# Altium integrated library TI Amplifiers and Linear Instrumentation Amplifier.IntLib: 274 symbols (part 9 of 10)
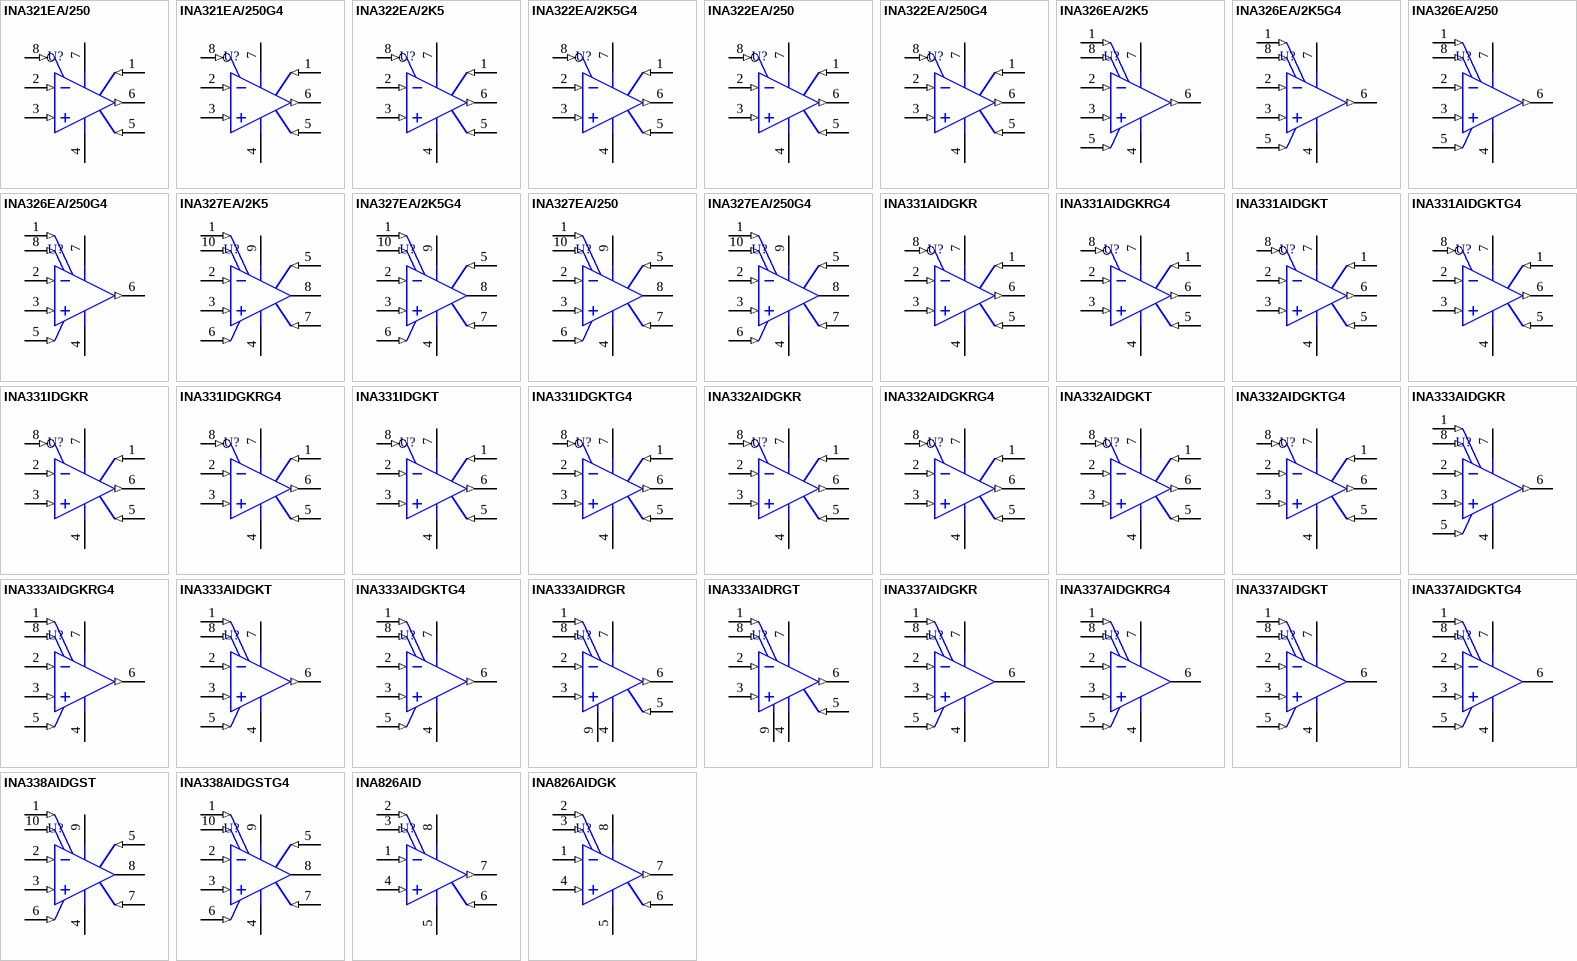
[diagram p16: symbols INA321EA/250 to INA826AIDGK]

## INA333AIDGKT
designator U?
Low Power, Precision Instrumentation Amplifier, -40 to 125 degC, 8-pin SOP (DGK8), Green (RoHS & no Sb/Br); Manufacturer: Texas Instruments; PartNumber: INA333AIDGKT; CMRR(Min)(dB): 100; Gain(V/V): 1 to 1000; Input Bias Current (+/-)(Max)(nA): 0.2; Input Offset (+/-)(Max)(uV): 25; Input Offset Drift (+/-)(Max)(uV/Degrees Celsius): 0.1; Noise at 1kHz(Typ)(nV/rt(Hz)): 50; Number of Channels: 1; Output Offset (+/-)(Max)(uV): 75/G; Output Offset Drift (+/-)(Max)(uV/Degrees Celsius): 0.5/G; Quiescent Current (+/-)(Typ)(mA): 0.05; SubFamily: Single Supply; Vs(Max)(V): 5.5; Vs(Min)(V): 1.8; DatasheetVersion: SBOS445B; PackageVersion: 4073329/E, 05/2006; PackageReference: DGK8; PackageDescription: 8-Pin Thin Small Outline, Body 3 x 3 mm, Pitch 0.65 mm; Supplier 1: Digi-Key; Supplier Part Number 1: 296-23565-2-ND; Supplier 2: Digi-Key; Supplier Part Number 2: 296-23565-1-ND; Supplier 3: Digi-Key; Supplier Part Number 3: 296-23565-6-ND; Supplier 4: Farnell; Supplier Part Number 4: 1645386; Supplier 5: Newark; Supplier Part Number 5: 86W6747; Supplier 6: Newark; Supplier Part Number 6: 03P4517; Supplier 7: Mouser; Supplier Part Number 7: 595-INA333AIDGKT; Eco-Plan: Green (RoHS & no Sb/Br); Mounting Technology: Surface Mount; Code_JEDEC: MO-187; ComponentLink1Description: Manufacturer URL; ComponentLink1URL: http://www.ti.com/; ComponentLink2Description: Datasheet; ComponentLink2URL: http://www.ti.com/general/docs/lit/getliterature.tsp?genericPartNumber=INA333&fileType=pdf; ComponentLink3Description: Package Specification; ComponentLink3URL: http://www.ti.com/litv/pdf/mpds028d
footprint TI-DGK8_N (SOP, 8-Leads, Body 3.1x3.1mm, Pitch 0.65mm, IPC Medium Density)
footprint TI-DGK8_L (SOP, 8-Leads, Body 3.1x3.1mm, Pitch 0.65mm, IPC High Density)
footprint TI-DGK8_M (SOP, 8-Leads, Body 3.1x3.1mm, Pitch 0.65mm, IPC Low Density)
pins: 1 RG (in), 2 VIN- (in), 3 VIN+ (in), 4 V- (power), 5 REF (in), 6 VOUT (out), 7 V+ (power), 8 RG (in)

## INA333AIDGKTG4
designator U?
Low Power, Precision Instrumentation Amplifier, -40 to 125 degC, 8-pin SOP (DGK8), Green (RoHS & no Sb/Br); Manufacturer: Texas Instruments; PartNumber: INA333AIDGKTG4; CMRR(Min)(dB): 100; Gain(V/V): 1 to 1000; Input Bias Current (+/-)(Max)(nA): 0.2; Input Offset (+/-)(Max)(uV): 25; Input Offset Drift (+/-)(Max)(uV/Degrees Celsius): 0.1; Noise at 1kHz(Typ)(nV/rt(Hz)): 50; Number of Channels: 1; Output Offset (+/-)(Max)(uV): 75/G; Output Offset Drift (+/-)(Max)(uV/Degrees Celsius): 0.5/G; Quiescent Current (+/-)(Typ)(mA): 0.05; SubFamily: Single Supply; Vs(Max)(V): 5.5; Vs(Min)(V): 1.8; DatasheetVersion: SBOS445B; PackageVersion: 4073329/E, 05/2006; PackageReference: DGK8; PackageDescription: 8-Pin Thin Small Outline, Body 3 x 3 mm, Pitch 0.65 mm; Supplier 1: Digi-Key; Supplier Part Number 1: INA333AIDGKTG4-ND; Supplier 2: Newark; Supplier Part Number 2: 34P4601; Supplier 3: Mouser; Supplier Part Number 3: 595-INA333AIDGKTG4; Eco-Plan: Green (RoHS & no Sb/Br); Mounting Technology: Surface Mount; Code_JEDEC: MO-187; ComponentLink1Description: Manufacturer URL; ComponentLink1URL: http://www.ti.com/; ComponentLink2Description: Datasheet; ComponentLink2URL: http://www.ti.com/general/docs/lit/getliterature.tsp?genericPartNumber=INA333&fileType=pdf; ComponentLink3Description: Package Specification; ComponentLink3URL: http://www.ti.com/litv/pdf/mpds028d
footprint TI-DGK8_N (SOP, 8-Leads, Body 3.1x3.1mm, Pitch 0.65mm, IPC Medium Density)
footprint TI-DGK8_L (SOP, 8-Leads, Body 3.1x3.1mm, Pitch 0.65mm, IPC High Density)
footprint TI-DGK8_M (SOP, 8-Leads, Body 3.1x3.1mm, Pitch 0.65mm, IPC Low Density)
pins: 1 RG (in), 2 VIN- (in), 3 VIN+ (in), 4 V- (power), 5 REF (in), 6 VOUT (out), 7 V+ (power), 8 RG (in)

## INA333AIDRGR
designator U?
Low Power, Precision Instrumentation Amplifier, -40 to 125 degC, 8-pin SON (DRG8), Green (RoHS & no Sb/Br); Manufacturer: Texas Instruments; PartNumber: INA333AIDRGR; CMRR(Min)(dB): 100; Gain(V/V): 1 to 1000; Input Bias Current (+/-)(Max)(nA): 0.2; Input Offset (+/-)(Max)(uV): 25; Input Offset Drift (+/-)(Max)(uV/Degrees Celsius): 0.1; Noise at 1kHz(Typ)(nV/rt(Hz)): 50; Number of Channels: 1; Output Offset (+/-)(Max)(uV): 75/G; Output Offset Drift (+/-)(Max)(uV/Degrees Celsius): 0.5/G; Quiescent Current (+/-)(Typ)(mA): 0.05; SubFamily: Single Supply; Vs(Max)(V): 5.5; Vs(Min)(V): 1.8; DatasheetVersion: SBOS445B; PackageVersion: 4205379/C, 12/2010; PackageReference: DRG8-2400X1450TP; PackageDescription: 8-Pin Plastic Small Outline, Body 3 x 3 mm, Pitch 0.5 mm; Supplier 1: Digi-Key; Supplier Part Number 1: INA333AIDRGR-ND; Supplier 2: Newark; Supplier Part Number 2: 24R9139; Supplier 3: Mouser; Supplier Part Number 3: 595-INA333AIDRGR; Eco-Plan: Green (RoHS & no Sb/Br); Mounting Technology: Surface Mount; Code_JEDEC: MO-229; ComponentLink1Description: Manufacturer URL; ComponentLink1URL: http://www.ti.com/; ComponentLink2Description: Datasheet; ComponentLink2URL: http://www.ti.com/general/docs/lit/getliterature.tsp?genericPartNumber=INA333&fileType=pdf; ComponentLink3Description: Package Specification; ComponentLink3URL: http://www.ti.com/litv/pdf/mpds151b
footprint TI-DRG8-2400X1450TP_V (SON, 8-Leads, Body 3x3mm, Pitch 0.5mm, Thermal Pad 2.4x1.45mm)
pins: 1 RG (in), 2 VIN- (in), 3 VIN+ (in), 4 V- (power), 5 REF (in), 6 VOUT (out), 7 V+ (power), 8 RG (in), 9 EP

## INA333AIDRGT
designator U?
Low Power, Precision Instrumentation Amplifier, -40 to 125 degC, 8-pin SON (DRG8), Green (RoHS & no Sb/Br); Manufacturer: Texas Instruments; PartNumber: INA333AIDRGT; CMRR(Min)(dB): 100; Gain(V/V): 1 to 1000; Input Bias Current (+/-)(Max)(nA): 0.2; Input Offset (+/-)(Max)(uV): 25; Input Offset Drift (+/-)(Max)(uV/Degrees Celsius): 0.1; Noise at 1kHz(Typ)(nV/rt(Hz)): 50; Number of Channels: 1; Output Offset (+/-)(Max)(uV): 75/G; Output Offset Drift (+/-)(Max)(uV/Degrees Celsius): 0.5/G; Quiescent Current (+/-)(Typ)(mA): 0.05; SubFamily: Single Supply; Vs(Max)(V): 5.5; Vs(Min)(V): 1.8; DatasheetVersion: SBOS445B; PackageVersion: 4205379/C, 12/2010; PackageReference: DRG8-2400X1450TP; PackageDescription: 8-Pin Plastic Small Outline, Body 3 x 3 mm, Pitch 0.5 mm; Supplier 1: Digi-Key; Supplier Part Number 1: 296-24575-2-ND; Supplier 2: Digi-Key; Supplier Part Number 2: 296-24575-1-ND; Supplier 3: Digi-Key; Supplier Part Number 3: 296-24575-6-ND; Supplier 4: Farnell; Supplier Part Number 4: 1903402; Supplier 5: Newark; Supplier Part Number 5: 94T4998; Supplier 6: Newark; Supplier Part Number 6: 24R9140; Supplier 7: Mouser; Supplier Part Number 7: 595-INA333AIDRGT; Eco-Plan: Green (RoHS & no Sb/Br); Mounting Technology: Surface Mount; Code_JEDEC: MO-229; ComponentLink1Description: Manufacturer URL; ComponentLink1URL: http://www.ti.com/; ComponentLink2Description: Datasheet; ComponentLink2URL: http://www.ti.com/general/docs/lit/getliterature.tsp?genericPartNumber=INA333&fileType=pdf; ComponentLink3Description: Package Specification; ComponentLink3URL: http://www.ti.com/litv/pdf/mpds151b
footprint TI-DRG8-2400X1450TP_V (SON, 8-Leads, Body 3x3mm, Pitch 0.5mm, Thermal Pad 2.4x1.45mm)
pins: 1 RG (in), 2 VIN- (in), 3 VIN+ (in), 4 V- (power), 5 REF (in), 6 VOUT (out), 7 V+ (power), 8 RG (in), 9 EP

## INA337AIDGKR
designator U?
Wide-Temperature, Precision Instrumentation Amplifier, -40 to 125 degC, 8-pin SOP (DGK8), Green (RoHS & no Sb/Br); Manufacturer: Texas Instruments; PartNumber: INA337AIDGKR; Bandwidth at G: 100(Min)(kHz)=1; CMRR(Min)(dB): 106; Gain(V/V): Less than 0.1 to Greater than 1000; Input Bias Current (+/-)(Max)(nA): 2; Input Offset (+/-)(Max)(uV): 100; Input Offset Drift (+/-)(Max)(uV/Degrees Celsius): 0.4; Noise at 1kHz(Typ)(nV/rt(Hz)): 33; Non-Linearity (+/-)(Max)(%): 0.01; Number of Channels: 1; Quiescent Current (+/-)(Typ)(mA): 2.4; SubFamily: Single Supply; Vs(Max)(V): 5.5; Vs(Min)(V): 2.7; DatasheetVersion: SBOS248; PackageVersion: 4073329/E, 05/2006; PackageReference: DGK8; PackageDescription: 8-Pin Thin Small Outline, Body 3 x 3 mm, Pitch 0.65 mm; Supplier 1: Digi-Key; Supplier Part Number 1: INA337AIDGKR-ND; Supplier 2: Newark; Supplier Part Number 2: 74C9884; Supplier 3: Mouser; Supplier Part Number 3: 595-INA337AIDGKR; Eco-Plan: Green (RoHS & no Sb/Br); Mounting Technology: Surface Mount; Code_JEDEC: MO-187; ComponentLink1Description: Manufacturer URL; ComponentLink1URL: http://www.ti.com/; ComponentLink2Description: Datasheet; ComponentLink2URL: http://www.ti.com/general/docs/lit/getliterature.tsp?genericPartNumber=INA337&fileType=pdf; ComponentLink3Description: Package Specification; ComponentLink3URL: http://www.ti.com/litv/pdf/mpds028d
footprint TI-DGK8_N (SOP, 8-Leads, Body 3.1x3.1mm, Pitch 0.65mm, IPC Medium Density)
footprint TI-DGK8_L (SOP, 8-Leads, Body 3.1x3.1mm, Pitch 0.65mm, IPC High Density)
footprint TI-DGK8_M (SOP, 8-Leads, Body 3.1x3.1mm, Pitch 0.65mm, IPC Low Density)
pins: 1 R1 (in), 2 VIN- (in), 3 VIN+ (in), 4 V- (power), 5 R2 (in), 6 VO (hiz), 7 V+ (power), 8 R1 (in)

## INA337AIDGKRG4
designator U?
Wide-Temperature, Precision Instrumentation Amplifier, -40 to 125 degC, 8-pin SOP (DGK8), Green (RoHS & no Sb/Br); Manufacturer: Texas Instruments; PartNumber: INA337AIDGKRG4; Bandwidth at G: 100(Min)(kHz)=1; CMRR(Min)(dB): 106; Gain(V/V): Less than 0.1 to Greater than 1000; Input Bias Current (+/-)(Max)(nA): 2; Input Offset (+/-)(Max)(uV): 100; Input Offset Drift (+/-)(Max)(uV/Degrees Celsius): 0.4; Noise at 1kHz(Typ)(nV/rt(Hz)): 33; Non-Linearity (+/-)(Max)(%): 0.01; Number of Channels: 1; Quiescent Current (+/-)(Typ)(mA): 2.4; SubFamily: Single Supply; Vs(Max)(V): 5.5; Vs(Min)(V): 2.7; DatasheetVersion: SBOS248; PackageVersion: 4073329/E, 05/2006; PackageReference: DGK8; PackageDescription: 8-Pin Thin Small Outline, Body 3 x 3 mm, Pitch 0.65 mm; Supplier 1: Digi-Key; Supplier Part Number 1: INA337AIDGKRG4-ND; Supplier 2: Mouser; Supplier Part Number 2: 595-INA337AIDGKRG4; Eco-Plan: Green (RoHS & no Sb/Br); Mounting Technology: Surface Mount; Code_JEDEC: MO-187; ComponentLink1Description: Manufacturer URL; ComponentLink1URL: http://www.ti.com/; ComponentLink2Description: Datasheet; ComponentLink2URL: http://www.ti.com/general/docs/lit/getliterature.tsp?genericPartNumber=INA337&fileType=pdf; ComponentLink3Description: Package Specification; ComponentLink3URL: http://www.ti.com/litv/pdf/mpds028d
footprint TI-DGK8_N (SOP, 8-Leads, Body 3.1x3.1mm, Pitch 0.65mm, IPC Medium Density)
footprint TI-DGK8_L (SOP, 8-Leads, Body 3.1x3.1mm, Pitch 0.65mm, IPC High Density)
footprint TI-DGK8_M (SOP, 8-Leads, Body 3.1x3.1mm, Pitch 0.65mm, IPC Low Density)
pins: 1 R1 (in), 2 VIN- (in), 3 VIN+ (in), 4 V- (power), 5 R2 (in), 6 VO (hiz), 7 V+ (power), 8 R1 (in)

## INA337AIDGKT
designator U?
Wide-Temperature, Precision Instrumentation Amplifier, -40 to 125 degC, 8-pin SOP (DGK8), Green (RoHS & no Sb/Br); Manufacturer: Texas Instruments; PartNumber: INA337AIDGKT; Bandwidth at G: 100(Min)(kHz)=1; CMRR(Min)(dB): 106; Gain(V/V): Less than 0.1 to Greater than 1000; Input Bias Current (+/-)(Max)(nA): 2; Input Offset (+/-)(Max)(uV): 100; Input Offset Drift (+/-)(Max)(uV/Degrees Celsius): 0.4; Noise at 1kHz(Typ)(nV/rt(Hz)): 33; Non-Linearity (+/-)(Max)(%): 0.01; Number of Channels: 1; Quiescent Current (+/-)(Typ)(mA): 2.4; SubFamily: Single Supply; Vs(Max)(V): 5.5; Vs(Min)(V): 2.7; DatasheetVersion: SBOS248; PackageVersion: 4073329/E, 05/2006; PackageReference: DGK8; PackageDescription: 8-Pin Thin Small Outline, Body 3 x 3 mm, Pitch 0.65 mm; Supplier 1: Digi-Key; Supplier Part Number 1: 296-13453-2-ND; Supplier 2: Digi-Key; Supplier Part Number 2: 296-13453-1-ND; Supplier 3: Digi-Key; Supplier Part Number 3: 296-13453-6-ND; Supplier 4: Farnell; Supplier Part Number 4: 1100951; Supplier 5: Newark; Supplier Part Number 5: 24M2927; Supplier 6: Newark; Supplier Part Number 6: 74C9885; Supplier 7: Mouser; Supplier Part Number 7: 595-INA337AIDGKT; Eco-Plan: Green (RoHS & no Sb/Br); Mounting Technology: Surface Mount; Code_JEDEC: MO-187; ComponentLink1Description: Manufacturer URL; ComponentLink1URL: http://www.ti.com/; ComponentLink2Description: Datasheet; ComponentLink2URL: http://www.ti.com/general/docs/lit/getliterature.tsp?genericPartNumber=INA337&fileType=pdf; ComponentLink3Description: Package Specification; ComponentLink3URL: http://www.ti.com/litv/pdf/mpds028d
footprint TI-DGK8_N (SOP, 8-Leads, Body 3.1x3.1mm, Pitch 0.65mm, IPC Medium Density)
footprint TI-DGK8_L (SOP, 8-Leads, Body 3.1x3.1mm, Pitch 0.65mm, IPC High Density)
footprint TI-DGK8_M (SOP, 8-Leads, Body 3.1x3.1mm, Pitch 0.65mm, IPC Low Density)
pins: 1 R1 (in), 2 VIN- (in), 3 VIN+ (in), 4 V- (power), 5 R2 (in), 6 VO (hiz), 7 V+ (power), 8 R1 (in)

## INA337AIDGKTG4
designator U?
Wide-Temperature, Precision Instrumentation Amplifier, -40 to 125 degC, 8-pin SOP (DGK8), Green (RoHS & no Sb/Br); Manufacturer: Texas Instruments; PartNumber: INA337AIDGKTG4; Bandwidth at G: 100(Min)(kHz)=1; CMRR(Min)(dB): 106; Gain(V/V): Less than 0.1 to Greater than 1000; Input Bias Current (+/-)(Max)(nA): 2; Input Offset (+/-)(Max)(uV): 100; Input Offset Drift (+/-)(Max)(uV/Degrees Celsius): 0.4; Noise at 1kHz(Typ)(nV/rt(Hz)): 33; Non-Linearity (+/-)(Max)(%): 0.01; Number of Channels: 1; Quiescent Current (+/-)(Typ)(mA): 2.4; SubFamily: Single Supply; Vs(Max)(V): 5.5; Vs(Min)(V): 2.7; DatasheetVersion: SBOS248; PackageVersion: 4073329/E, 05/2006; PackageReference: DGK8; PackageDescription: 8-Pin Thin Small Outline, Body 3 x 3 mm, Pitch 0.65 mm; Supplier 1: Digi-Key; Supplier Part Number 1: INA337AIDGKTG4-ND; Supplier 2: Mouser; Supplier Part Number 2: 595-INA337AIDGKTG4; Eco-Plan: Green (RoHS & no Sb/Br); Mounting Technology: Surface Mount; Code_JEDEC: MO-187; ComponentLink1Description: Manufacturer URL; ComponentLink1URL: http://www.ti.com/; ComponentLink2Description: Datasheet; ComponentLink2URL: http://www.ti.com/general/docs/lit/getliterature.tsp?genericPartNumber=INA337&fileType=pdf; ComponentLink3Description: Package Specification; ComponentLink3URL: http://www.ti.com/litv/pdf/mpds028d
footprint TI-DGK8_N (SOP, 8-Leads, Body 3.1x3.1mm, Pitch 0.65mm, IPC Medium Density)
footprint TI-DGK8_L (SOP, 8-Leads, Body 3.1x3.1mm, Pitch 0.65mm, IPC High Density)
footprint TI-DGK8_M (SOP, 8-Leads, Body 3.1x3.1mm, Pitch 0.65mm, IPC Low Density)
pins: 1 R1 (in), 2 VIN- (in), 3 VIN+ (in), 4 V- (power), 5 R2 (in), 6 VO (hiz), 7 V+ (power), 8 R1 (in)

## INA338AIDGST
designator U?
Wide-Temperature, Precision Instrumentation Amplifier with Shutdown, -40 to 125 degC, 10-pin SOP (DGS10), Green (RoHS & no Sb/Br); Manufacturer: Texas Instruments; PartNumber: INA338AIDGST; CMRR(Min)(dB): 106; Gain(V/V): Less than 0.1 to Greater than 1000; Input Bias Current (+/-)(Max)(nA): 2; Input Offset (+/-)(Max)(uV): 100; Input Offset Drift (+/-)(Max)(uV/Degrees Celsius): 0.4; Noise at 1kHz(Typ)(nV/rt(Hz)): 33; Non-Linearity (+/-)(Max)(%): 0.01; Number of Channels: 1; Quiescent Current (+/-)(Typ)(mA): 2.4; SubFamily: Single Supply; Vs(Max)(V): 5.5; Vs(Min)(V): 2.7; DatasheetVersion: SBOS248; PackageVersion: 4073272/C, 02/2004; PackageReference: DGS10; PackageDescription: 10-Pin Plastic Small Outline, Body 3 x 3 mm, Pitch 0.5 mm; Supplier 1: Digi-Key; Supplier Part Number 1: 296-13454-2-ND; Supplier 2: Digi-Key; Supplier Part Number 2: 296-13454-1-ND; Supplier 3: Digi-Key; Supplier Part Number 3: 296-13454-6-ND; Supplier 4: Newark; Supplier Part Number 4: 74C9887; Supplier 5: Mouser; Supplier Part Number 5: 595-INA338AIDGST; Eco-Plan: Green (RoHS & no Sb/Br); Mounting Technology: Surface Mount; Code_JEDEC: MO-153; ComponentLink1Description: Manufacturer URL; ComponentLink1URL: http://www.ti.com/; ComponentLink2Description: Datasheet; ComponentLink2URL: http://www.ti.com/general/docs/lit/getliterature.tsp?genericPartNumber=INA338&fileType=pdf; ComponentLink3Description: Package Specification; ComponentLink3URL: http://www.ti.com/lit/ml/mpds035b/mpds035b.pdf
footprint TI-DGS10_N (SOP, 10-Leads, Body 3.1x3.1mm, Pitch 0.5mm, IPC Medium Density)
footprint TI-DGS10_L (SOP, 10-Leads, Body 3.1x3.1mm, Pitch 0.5mm, IPC High Density)
footprint TI-DGS10_M (SOP, 10-Leads, Body 3.1x3.1mm, Pitch 0.5mm, IPC Low Density)
pins: 1 R1 (in), 2 VIN- (in), 3 VIN+ (in), 4 V- (power), 5 (CONNECT TO V+) (in), 6 ENABLE (in), 7 R2 (in), 8 VO (hiz), 9 V+ (power), 10 R1 (in)

## INA338AIDGSTG4
designator U?
Wide-Temperature, Precision Instrumentation Amplifier with Shutdown, -40 to 125 degC, 10-pin SOP (DGS10), Green (RoHS & no Sb/Br); Manufacturer: Texas Instruments; PartNumber: INA338AIDGSTG4; CMRR(Min)(dB): 106; Gain(V/V): Less than 0.1 to Greater than 1000; Input Bias Current (+/-)(Max)(nA): 2; Input Offset (+/-)(Max)(uV): 100; Input Offset Drift (+/-)(Max)(uV/Degrees Celsius): 0.4; Noise at 1kHz(Typ)(nV/rt(Hz)): 33; Non-Linearity (+/-)(Max)(%): 0.01; Number of Channels: 1; Quiescent Current (+/-)(Typ)(mA): 2.4; SubFamily: Single Supply; Vs(Max)(V): 5.5; Vs(Min)(V): 2.7; DatasheetVersion: SBOS248; PackageVersion: 4073272/C, 02/2004; PackageReference: DGS10; PackageDescription: 10-Pin Plastic Small Outline, Body 3 x 3 mm, Pitch 0.5 mm; Supplier 1: Digi-Key; Supplier Part Number 1: INA338AIDGSTG4-ND; Supplier 2: Mouser; Supplier Part Number 2: 595-INA338AIDGSTG4; Eco-Plan: Green (RoHS & no Sb/Br); Mounting Technology: Surface Mount; Code_JEDEC: MO-153; ComponentLink1Description: Manufacturer URL; ComponentLink1URL: http://www.ti.com/; ComponentLink2Description: Datasheet; ComponentLink2URL: http://www.ti.com/general/docs/lit/getliterature.tsp?genericPartNumber=INA338&fileType=pdf; ComponentLink3Description: Package Specification; ComponentLink3URL: http://www.ti.com/lit/ml/mpds035b/mpds035b.pdf
footprint TI-DGS10_N (SOP, 10-Leads, Body 3.1x3.1mm, Pitch 0.5mm, IPC Medium Density)
footprint TI-DGS10_L (SOP, 10-Leads, Body 3.1x3.1mm, Pitch 0.5mm, IPC High Density)
footprint TI-DGS10_M (SOP, 10-Leads, Body 3.1x3.1mm, Pitch 0.5mm, IPC Low Density)
pins: 1 R1 (in), 2 VIN- (in), 3 VIN+ (in), 4 V- (power), 5 (CONNECT TO V+) (in), 6 ENABLE (in), 7 R2 (in), 8 VO (hiz), 9 V+ (power), 10 R1 (in)

## INA826AID
designator U?
Precision, 200-uA Supply Current, 36-V Supply Instrumentation Amplifier, -40 to 125 degC, 8-pin SOIC (D8), Green (RoHS & no Sb/Br); Manufacturer: Texas Instruments; PartNumber: INA826AID; CMRR(Min)(dB): 84; Gain(V/V): 1 to 1000; Input Bias Current (+/-)(Max)(nA): 65; Input Offset (+/-)(Max)(uV): 150; Input Offset Drift (+/-)(Max)(uV/Degrees Celsius): 2; Noise at 1kHz(Typ)(nV/rt(Hz)): 18; Non-Linearity (+/-)(Max)(%): 0.0005; Number of Channels: 1; Output Offset (+/-)(Max)(uV): 700; Output Offset Drift (+/-)(Max)(uV/Degrees Celsius): 10; Quiescent Current (+/-)(Typ)(mA): 0.2; SubFamily: Single Supply; Vs(Max)(V): 36; Vs(Min)(V): 2.7; DatasheetVersion: SBOS562E; PackageVersion: 4040047-3/M, 06/2011; PackageReference: D8; PackageDescription: 8-Pin Plastic Small Outline, Body 4.9 x 3.9 mm, Pitch 1.27 mm; Supplier 1: Digi-Key; Supplier Part Number 1: 296-33294-5-ND; Supplier 2: Farnell; Supplier Part Number 2: 2095821; Supplier 3: Newark; Supplier Part Number 3: 82T3831; Supplier 4: Mouser; Supplier Part Number 4: 595-INA826AID; Eco-Plan: Green (RoHS & no Sb/Br); Mounting Technology: Surface Mount; Code_JEDEC: MS-012; ComponentLink1Description: Manufacturer URL; ComponentLink1URL: http://www.ti.com/; ComponentLink2Description: Datasheet; ComponentLink2URL: http://www.ti.com/general/docs/lit/getliterature.tsp?genericPartNumber=INA826&fileType=pdf; ComponentLink3Description: Package Specification; ComponentLink3URL: http://www.ti.com/litv/pdf/msoi002j
footprint TI-D8_N (SOIC, 8-Leads, Body 5x4mm, Pitch 1.27mm, IPC Medium Density)
footprint TI-D8_L (SOIC, 8-Leads, Body 5x4mm, Pitch 1.27mm, IPC High Density)
footprint TI-D8_M (SOIC, 8-Leads, Body 5x4mm, Pitch 1.27mm, IPC Low Density)
pins: 1 IN- (in) "Negative input", 2 RG (in) "Gain setting pin. Place a gain resistor between pin 2 and pin 3.", 3 RG (in) "Gain setting pin. Place a gain resistor between pin 2 and pin 3.", 4 IN+ (in) "Positive input", 5 VS- (power) "Negative supply", 6 REF (in) "Reference input. This pin must be driven by low impedance.", 7 VOUT (out) "Output", 8 VS+ (power) "Positive supply"

## INA826AIDGK
designator U?
Precision, 200-uA Supply Current, 36-V Supply Instrumentation Amplifier, -40 to 125 degC, 8-pin SOP (DGK8), Green (RoHS & no Sb/Br); Manufacturer: Texas Instruments; PartNumber: INA826AIDGK; CMRR(Min)(dB): 84; Gain(V/V): 1 to 1000; Input Bias Current (+/-)(Max)(nA): 65; Input Offset (+/-)(Max)(uV): 150; Input Offset Drift (+/-)(Max)(uV/Degrees Celsius): 2; Noise at 1kHz(Typ)(nV/rt(Hz)): 18; Non-Linearity (+/-)(Max)(%): 0.0005; Number of Channels: 1; Output Offset (+/-)(Max)(uV): 700; Output Offset Drift (+/-)(Max)(uV/Degrees Celsius): 10; Quiescent Current (+/-)(Typ)(mA): 0.2; SubFamily: Single Supply; Vs(Max)(V): 36; Vs(Min)(V): 2.7; DatasheetVersion: SBOS562E; PackageVersion: 4073329/E, 05/2006; PackageReference: DGK8; PackageDescription: 8-Pin Thin Small Outline, Body 3 x 3 mm, Pitch 0.65 mm; Supplier 1: Digi-Key; Supplier Part Number 1: 296-29687-5-ND; Supplier 2: Farnell; Supplier Part Number 2: 2061817; Supplier 3: Newark; Supplier Part Number 3: 64T3159; Supplier 4: Newark; Supplier Part Number 4: 73T9234; Supplier 5: Mouser; Supplier Part Number 5: 595-INA826AIDGK; Eco-Plan: Green (RoHS & no Sb/Br); Mounting Technology: Surface Mount; Code_JEDEC: MO-187; ComponentLink1Description: Manufacturer URL; ComponentLink1URL: http://www.ti.com/; ComponentLink2Description: Datasheet; ComponentLink2URL: http://www.ti.com/general/docs/lit/getliterature.tsp?genericPartNumber=INA826&fileType=pdf; ComponentLink3Description: Package Specification; ComponentLink3URL: http://www.ti.com/litv/pdf/mpds028d
footprint TI-DGK8_N (SOP, 8-Leads, Body 3.1x3.1mm, Pitch 0.65mm, IPC Medium Density)
footprint TI-DGK8_L (SOP, 8-Leads, Body 3.1x3.1mm, Pitch 0.65mm, IPC High Density)
footprint TI-DGK8_M (SOP, 8-Leads, Body 3.1x3.1mm, Pitch 0.65mm, IPC Low Density)
pins: 1 IN- (in) "Negative input", 2 RG (in) "Gain setting pin. Place a gain resistor between pin 2 and pin 3.", 3 RG (in) "Gain setting pin. Place a gain resistor between pin 2 and pin 3.", 4 IN+ (in) "Positive input", 5 VS- (power) "Negative supply", 6 REF (in) "Reference input. This pin must be driven by low impedance.", 7 VOUT (out) "Output", 8 VS+ (power) "Positive supply"

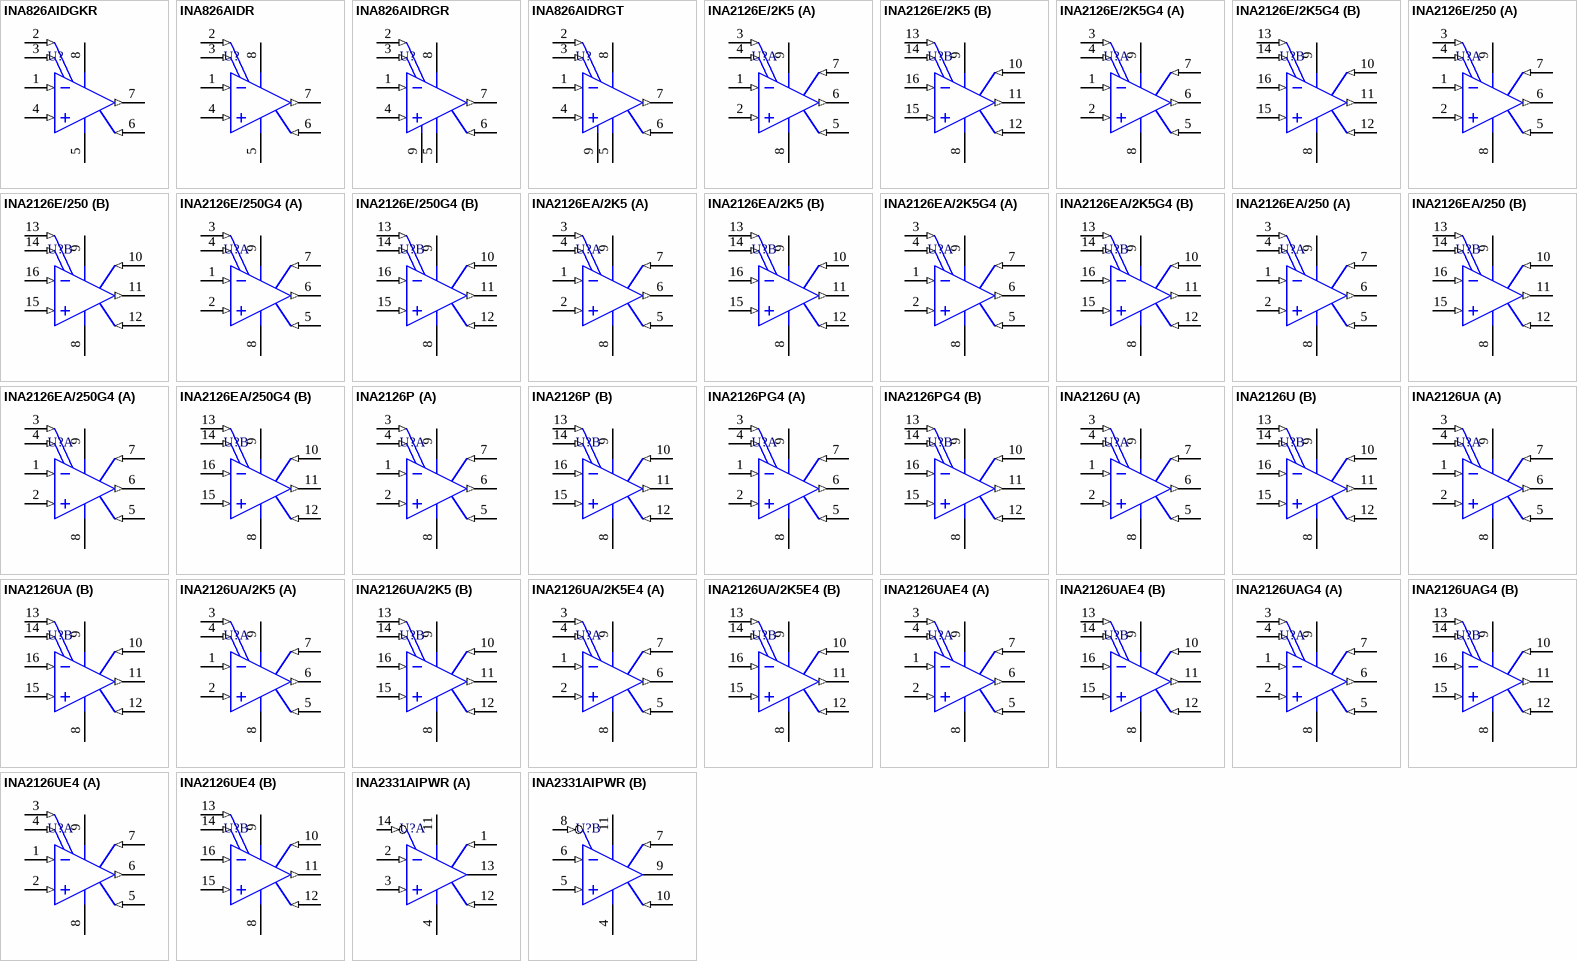
[diagram p7: symbols INA826AIDGKR to INA2331AIPWR]

## INA826AIDGKR
designator U?
Precision, 200-uA Supply Current, 36-V Supply Instrumentation Amplifier, -40 to 125 degC, 8-pin SOP (DGK8), Green (RoHS & no Sb/Br); Manufacturer: Texas Instruments; PartNumber: INA826AIDGKR; CMRR(Min)(dB): 84; Gain(V/V): 1 to 1000; Input Bias Current (+/-)(Max)(nA): 65; Input Offset (+/-)(Max)(uV): 150; Input Offset Drift (+/-)(Max)(uV/Degrees Celsius): 2; Noise at 1kHz(Typ)(nV/rt(Hz)): 18; Non-Linearity (+/-)(Max)(%): 0.0005; Number of Channels: 1; Output Offset (+/-)(Max)(uV): 700; Output Offset Drift (+/-)(Max)(uV/Degrees Celsius): 10; Quiescent Current (+/-)(Typ)(mA): 0.2; SubFamily: Single Supply; Vs(Max)(V): 36; Vs(Min)(V): 2.7; DatasheetVersion: SBOS562E; PackageVersion: 4073329/E, 05/2006; PackageReference: DGK8; PackageDescription: 8-Pin Thin Small Outline, Body 3 x 3 mm, Pitch 0.65 mm; Supplier 1: Digi-Key; Supplier Part Number 1: 296-29663-2-ND; Supplier 2: Digi-Key; Supplier Part Number 2: 296-29663-1-ND; Supplier 3: Digi-Key; Supplier Part Number 3: 296-29663-6-ND; Supplier 4: Farnell; Supplier Part Number 4: 2064255; Supplier 5: Newark; Supplier Part Number 5: 71T7039; Supplier 6: Newark; Supplier Part Number 6: 64T3160; Supplier 7: Mouser; Supplier Part Number 7: 595-INA826AIDGKR; Eco-Plan: Green (RoHS & no Sb/Br); Mounting Technology: Surface Mount; Code_JEDEC: MO-187; ComponentLink1Description: Manufacturer URL; ComponentLink1URL: http://www.ti.com/; ComponentLink2Description: Datasheet; ComponentLink2URL: http://www.ti.com/general/docs/lit/getliterature.tsp?genericPartNumber=INA826&fileType=pdf; ComponentLink3Description: Package Specification; ComponentLink3URL: http://www.ti.com/litv/pdf/mpds028d
footprint TI-DGK8_N (SOP, 8-Leads, Body 3.1x3.1mm, Pitch 0.65mm, IPC Medium Density)
footprint TI-DGK8_L (SOP, 8-Leads, Body 3.1x3.1mm, Pitch 0.65mm, IPC High Density)
footprint TI-DGK8_M (SOP, 8-Leads, Body 3.1x3.1mm, Pitch 0.65mm, IPC Low Density)
pins: 1 IN- (in) "Negative input", 2 RG (in) "Gain setting pin. Place a gain resistor between pin 2 and pin 3.", 3 RG (in) "Gain setting pin. Place a gain resistor between pin 2 and pin 3.", 4 IN+ (in) "Positive input", 5 VS- (power) "Negative supply", 6 REF (in) "Reference input. This pin must be driven by low impedance.", 7 VOUT (out) "Output", 8 VS+ (power) "Positive supply"

## INA826AIDR
designator U?
Precision, 200-uA Supply Current, 36-V Supply Instrumentation Amplifier, -40 to 125 degC, 8-pin SOIC (D8), Green (RoHS & no Sb/Br); Manufacturer: Texas Instruments; PartNumber: INA826AIDR; CMRR(Min)(dB): 84; Gain(V/V): 1 to 1000; Input Bias Current (+/-)(Max)(nA): 65; Input Offset (+/-)(Max)(uV): 150; Input Offset Drift (+/-)(Max)(uV/Degrees Celsius): 2; Noise at 1kHz(Typ)(nV/rt(Hz)): 18; Non-Linearity (+/-)(Max)(%): 0.0005; Number of Channels: 1; Output Offset (+/-)(Max)(uV): 700; Output Offset Drift (+/-)(Max)(uV/Degrees Celsius): 10; Quiescent Current (+/-)(Typ)(mA): 0.2; SubFamily: Single Supply; Vs(Max)(V): 36; Vs(Min)(V): 2.7; DatasheetVersion: SBOS562E; PackageVersion: 4040047-3/M, 06/2011; PackageReference: D8; PackageDescription: 8-Pin Plastic Small Outline, Body 4.9 x 3.9 mm, Pitch 1.27 mm; Supplier 1: Digi-Key; Supplier Part Number 1: 296-30238-2-ND; Supplier 2: Digi-Key; Supplier Part Number 2: 296-30238-1-ND; Supplier 3: Digi-Key; Supplier Part Number 3: 296-30238-6-ND; Supplier 4: Newark; Supplier Part Number 4: 82T3832; Supplier 5: Mouser; Supplier Part Number 5: 595-INA826AIDR; Eco-Plan: Green (RoHS & no Sb/Br); Mounting Technology: Surface Mount; Code_JEDEC: MS-012; ComponentLink1Description: Manufacturer URL; ComponentLink1URL: http://www.ti.com/; ComponentLink2Description: Datasheet; ComponentLink2URL: http://www.ti.com/general/docs/lit/getliterature.tsp?genericPartNumber=INA826&fileType=pdf; ComponentLink3Description: Package Specification; ComponentLink3URL: http://www.ti.com/litv/pdf/msoi002j
footprint TI-D8_N (SOIC, 8-Leads, Body 5x4mm, Pitch 1.27mm, IPC Medium Density)
footprint TI-D8_L (SOIC, 8-Leads, Body 5x4mm, Pitch 1.27mm, IPC High Density)
footprint TI-D8_M (SOIC, 8-Leads, Body 5x4mm, Pitch 1.27mm, IPC Low Density)
pins: 1 IN- (in) "Negative input", 2 RG (in) "Gain setting pin. Place a gain resistor between pin 2 and pin 3.", 3 RG (in) "Gain setting pin. Place a gain resistor between pin 2 and pin 3.", 4 IN+ (in) "Positive input", 5 VS- (power) "Negative supply", 6 REF (in) "Reference input. This pin must be driven by low impedance.", 7 VOUT (out) "Output", 8 VS+ (power) "Positive supply"

## INA826AIDRGR
designator U?
Precision, 200-uA Supply Current, 36-V Supply Instrumentation Amplifier, -40 to 125 degC, 8-pin SON (DRG8), Green (RoHS & no Sb/Br); Manufacturer: Texas Instruments; PartNumber: INA826AIDRGR; CMRR(Min)(dB): 84; Gain(V/V): 1 to 1000; Input Bias Current (+/-)(Max)(nA): 65; Input Offset (+/-)(Max)(uV): 150; Input Offset Drift (+/-)(Max)(uV/Degrees Celsius): 2; Noise at 1kHz(Typ)(nV/rt(Hz)): 18; Non-Linearity (+/-)(Max)(%): 0.0005; Number of Channels: 1; Output Offset (+/-)(Max)(uV): 700; Output Offset Drift (+/-)(Max)(uV/Degrees Celsius): 10; Quiescent Current (+/-)(Typ)(mA): 0.2; SubFamily: Single Supply; Vs(Max)(V): 36; Vs(Min)(V): 2.7; DatasheetVersion: SBOS562E; PackageVersion: 4205379/C, 12/2010; PackageReference: DRG8-2000X1200TP; PackageDescription: 8-Pin Plastic Small Outline, Body 3 x 3 mm, Pitch 0.5 mm; Supplier 1: Digi-Key; Supplier Part Number 1: 296-36596-2-ND; Supplier 2: Digi-Key; Supplier Part Number 2: 296-36596-1-ND; Supplier 3: Digi-Key; Supplier Part Number 3: 296-36596-6-ND; Supplier 4: Newark; Supplier Part Number 4: 92T2069; Supplier 5: Mouser; Supplier Part Number 5: 595-INA826AIDRGR; Eco-Plan: Green (RoHS & no Sb/Br); Mounting Technology: Surface Mount; Code_JEDEC: MO-229; ComponentLink1Description: Manufacturer URL; ComponentLink1URL: http://www.ti.com/; ComponentLink2Description: Datasheet; ComponentLink2URL: http://www.ti.com/general/docs/lit/getliterature.tsp?genericPartNumber=INA826&fileType=pdf; ComponentLink3Description: Package Specification; ComponentLink3URL: http://www.ti.com/litv/pdf/mpds151b
footprint TI-DRG8-2000X1200TP_V (SON, 8-Leads, Body 3x3mm, Pitch 0.5mm, Thermal Pad 1.2x2mm)
pins: 1 IN- (in) "Negative input", 2 RG (in) "Gain setting pin. Place a gain resistor between pin 2 and pin 3.", 3 RG (in) "Gain setting pin. Place a gain resistor between pin 2 and pin 3.", 4 IN+ (in) "Positive input", 5 VS- (power) "Negative supply", 6 REF (in) "Reference input. This pin must be driven by low impedance.", 7 VOUT (out) "Output", 8 VS+ (power) "Positive supply", 9 EP

## INA826AIDRGT
designator U?
Precision, 200-uA Supply Current, 36-V Supply Instrumentation Amplifier, -40 to 125 degC, 8-pin SON (DRG8), Green (RoHS & no Sb/Br); Manufacturer: Texas Instruments; PartNumber: INA826AIDRGT; CMRR(Min)(dB): 84; Gain(V/V): 1 to 1000; Input Bias Current (+/-)(Max)(nA): 65; Input Offset (+/-)(Max)(uV): 150; Input Offset Drift (+/-)(Max)(uV/Degrees Celsius): 2; Noise at 1kHz(Typ)(nV/rt(Hz)): 18; Non-Linearity (+/-)(Max)(%): 0.0005; Number of Channels: 1; Output Offset (+/-)(Max)(uV): 700; Output Offset Drift (+/-)(Max)(uV/Degrees Celsius): 10; Quiescent Current (+/-)(Typ)(mA): 0.2; SubFamily: Single Supply; Vs(Max)(V): 36; Vs(Min)(V): 2.7; DatasheetVersion: SBOS562E; PackageVersion: 4205379/C, 12/2010; PackageReference: DRG8-2000X1200TP; PackageDescription: 8-Pin Plastic Small Outline, Body 3 x 3 mm, Pitch 0.5 mm; Supplier 1: Digi-Key; Supplier Part Number 1: 296-30347-2-ND; Supplier 2: Digi-Key; Supplier Part Number 2: 296-30347-1-ND; Supplier 3: Digi-Key; Supplier Part Number 3: 296-30347-6-ND; Supplier 4: Farnell; Supplier Part Number 4: 2099886; Supplier 5: Newark; Supplier Part Number 5: 05W5521; Supplier 6: Newark; Supplier Part Number 6: 92T2070; Supplier 7: Mouser; Supplier Part Number 7: 595-INA826AIDRGT; Eco-Plan: Green (RoHS & no Sb/Br); Mounting Technology: Surface Mount; Code_JEDEC: MO-229; ComponentLink1Description: Manufacturer URL; ComponentLink1URL: http://www.ti.com/; ComponentLink2Description: Datasheet; ComponentLink2URL: http://www.ti.com/general/docs/lit/getliterature.tsp?genericPartNumber=INA826&fileType=pdf; ComponentLink3Description: Package Specification; ComponentLink3URL: http://www.ti.com/litv/pdf/mpds151b
footprint TI-DRG8-2000X1200TP_V (SON, 8-Leads, Body 3x3mm, Pitch 0.5mm, Thermal Pad 1.2x2mm)
pins: 1 IN- (in) "Negative input", 2 RG (in) "Gain setting pin. Place a gain resistor between pin 2 and pin 3.", 3 RG (in) "Gain setting pin. Place a gain resistor between pin 2 and pin 3.", 4 IN+ (in) "Positive input", 5 VS- (power) "Negative supply", 6 REF (in) "Reference input. This pin must be driven by low impedance.", 7 VOUT (out) "Output", 8 VS+ (power) "Positive supply", 9 EP

## INA2126E/2K5
designator U?
Micropower Instrumentation Amplifier Dual Versions, -40 to 85 degC, 16-pin SOP (DBQ16), Green (RoHS & no Sb/Br); Manufacturer: Texas Instruments; PartNumber: INA2126E/2K5; Bandwidth at G: 100(Min)(kHz)=9; CMRR(Min)(dB): 83; Gain(V/V): 5 to 10000; Input Bias Current (+/-)(Max)(nA): 25; Input Offset (+/-)(Max)(uV): 250; Input Offset Drift (+/-)(Max)(uV/Degrees Celsius): 3; Noise at 1kHz(Typ)(nV/rt(Hz)): 35; Non-Linearity (+/-)(Max)(%): 0.012; Number of Channels: 2; Quiescent Current (+/-)(Typ)(mA): 0.175; SubFamily: Dual Supply; Vs(Max)(V): 36; Vs(Min)(V): 2.7; DatasheetVersion: SBOS062A; PackageVersion: 4073301-2/H, 10/2008; PackageReference: DBQ16; PackageDescription: 16-Pin Plastic Small Outline, Body 3.9 x 4.9 mm, Pitch 0.635 mm; Supplier 1: Digi-Key; Supplier Part Number 1: INA2126E/2K5-ND; Supplier 2: Newark; Supplier Part Number 2: 74C9834; Supplier 3: Mouser; Supplier Part Number 3: 595-INA2126E/2K5; Eco-Plan: Green (RoHS & no Sb/Br); Mounting Technology: Surface Mount; Code_JEDEC: MO-137; ComponentLink1Description: Manufacturer URL; ComponentLink1URL: http://www.ti.com/; ComponentLink2Description: Datasheet; ComponentLink2URL: http://www.ti.com/general/docs/lit/getliterature.tsp?genericPartNumber=INA2126&fileType=pdf; ComponentLink3Description: Package Specification; ComponentLink3URL: http://www.ti.com/litv/pdf/msoi004g
footprint TI-DBQ16_N (SOP, 16-Leads, Body 5x4mm, Pitch 0.635mm, IPC Medium Density)
footprint TI-DBQ16_L (SOP, 16-Leads, Body 5x4mm, Pitch 0.635mm, IPC High Density)
footprint TI-DBQ16_M (SOP, 16-Leads, Body 5x4mm, Pitch 0.635mm, IPC Low Density)
pins on every part: 8 V- (power), 9 V+ (power)
part A pins: 1 VINA- (in), 2 VINA+ (in), 3 RGA (in), 4 RGA (in), 5 REFA (in), 6 VOA (out), 7 SENSEA (in)
part B pins: 10 SENSEB (in), 11 VOB (out), 12 REFB (in), 13 RGB (in), 14 RGB (in), 15 VINB+ (in), 16 VINB- (in)

## INA2126E/2K5G4
designator U?
Micropower Instrumentation Amplifier Dual Versions, -40 to 85 degC, 16-pin SOP (DBQ16), Green (RoHS & no Sb/Br); Manufacturer: Texas Instruments; PartNumber: INA2126E/2K5G4; Bandwidth at G: 100(Min)(kHz)=9; CMRR(Min)(dB): 83; Gain(V/V): 5 to 10000; Input Bias Current (+/-)(Max)(nA): 25; Input Offset (+/-)(Max)(uV): 250; Input Offset Drift (+/-)(Max)(uV/Degrees Celsius): 3; Noise at 1kHz(Typ)(nV/rt(Hz)): 35; Non-Linearity (+/-)(Max)(%): 0.012; Number of Channels: 2; Quiescent Current (+/-)(Typ)(mA): 0.175; SubFamily: Dual Supply; Vs(Max)(V): 36; Vs(Min)(V): 2.7; DatasheetVersion: SBOS062A; PackageVersion: 4073301-2/H, 10/2008; PackageReference: DBQ16; PackageDescription: 16-Pin Plastic Small Outline, Body 3.9 x 4.9 mm, Pitch 0.635 mm; Supplier 1: Digi-Key; Supplier Part Number 1: INA2126E/2K5G4-ND; Supplier 2: Newark; Supplier Part Number 2: 53K9313; Supplier 3: Mouser; Supplier Part Number 3: 595-INA2126E/2K5G4; Eco-Plan: Green (RoHS & no Sb/Br); Mounting Technology: Surface Mount; Code_JEDEC: MO-137; ComponentLink1Description: Manufacturer URL; ComponentLink1URL: http://www.ti.com/; ComponentLink2Description: Datasheet; ComponentLink2URL: http://www.ti.com/general/docs/lit/getliterature.tsp?genericPartNumber=INA2126&fileType=pdf; ComponentLink3Description: Package Specification; ComponentLink3URL: http://www.ti.com/litv/pdf/msoi004g
footprint TI-DBQ16_N (SOP, 16-Leads, Body 5x4mm, Pitch 0.635mm, IPC Medium Density)
footprint TI-DBQ16_L (SOP, 16-Leads, Body 5x4mm, Pitch 0.635mm, IPC High Density)
footprint TI-DBQ16_M (SOP, 16-Leads, Body 5x4mm, Pitch 0.635mm, IPC Low Density)
pins on every part: 8 V- (power), 9 V+ (power)
part A pins: 1 VINA- (in), 2 VINA+ (in), 3 RGA (in), 4 RGA (in), 5 REFA (in), 6 VOA (out), 7 SENSEA (in)
part B pins: 10 SENSEB (in), 11 VOB (out), 12 REFB (in), 13 RGB (in), 14 RGB (in), 15 VINB+ (in), 16 VINB- (in)

## INA2126E/250
designator U?
Micropower Instrumentation Amplifier Dual Versions, -40 to 85 degC, 16-pin SOP (DBQ16), Green (RoHS & no Sb/Br); Manufacturer: Texas Instruments; PartNumber: INA2126E/250; Bandwidth at G: 100(Min)(kHz)=9; CMRR(Min)(dB): 83; Gain(V/V): 5 to 10000; Input Bias Current (+/-)(Max)(nA): 25; Input Offset (+/-)(Max)(uV): 250; Input Offset Drift (+/-)(Max)(uV/Degrees Celsius): 3; Noise at 1kHz(Typ)(nV/rt(Hz)): 35; Non-Linearity (+/-)(Max)(%): 0.012; Number of Channels: 2; Quiescent Current (+/-)(Typ)(mA): 0.175; SubFamily: Dual Supply; Vs(Max)(V): 36; Vs(Min)(V): 2.7; DatasheetVersion: SBOS062A; PackageVersion: 4073301-2/H, 10/2008; PackageReference: DBQ16; PackageDescription: 16-Pin Plastic Small Outline, Body 3.9 x 4.9 mm, Pitch 0.635 mm; Supplier 1: Digi-Key; Supplier Part Number 1: INA2126ETR-ND; Supplier 2: Digi-Key; Supplier Part Number 2: INA2126ECT-ND; Supplier 3: Digi-Key; Supplier Part Number 3: INA2126EDKR-ND; Supplier 4: Newark; Supplier Part Number 4: 74C9835; Supplier 5: Mouser; Supplier Part Number 5: 595-INA2126E/250; Eco-Plan: Green (RoHS & no Sb/Br); Mounting Technology: Surface Mount; Code_JEDEC: MO-137; ComponentLink1Description: Manufacturer URL; ComponentLink1URL: http://www.ti.com/; ComponentLink2Description: Datasheet; ComponentLink2URL: http://www.ti.com/general/docs/lit/getliterature.tsp?genericPartNumber=INA2126&fileType=pdf; ComponentLink3Description: Package Specification; ComponentLink3URL: http://www.ti.com/litv/pdf/msoi004g
footprint TI-DBQ16_N (SOP, 16-Leads, Body 5x4mm, Pitch 0.635mm, IPC Medium Density)
footprint TI-DBQ16_L (SOP, 16-Leads, Body 5x4mm, Pitch 0.635mm, IPC High Density)
footprint TI-DBQ16_M (SOP, 16-Leads, Body 5x4mm, Pitch 0.635mm, IPC Low Density)
pins on every part: 8 V- (power), 9 V+ (power)
part A pins: 1 VINA- (in), 2 VINA+ (in), 3 RGA (in), 4 RGA (in), 5 REFA (in), 6 VOA (out), 7 SENSEA (in)
part B pins: 10 SENSEB (in), 11 VOB (out), 12 REFB (in), 13 RGB (in), 14 RGB (in), 15 VINB+ (in), 16 VINB- (in)

## INA2126E/250G4
designator U?
Micropower Instrumentation Amplifier Dual Versions, -40 to 85 degC, 16-pin SOP (DBQ16), Green (RoHS & no Sb/Br); Manufacturer: Texas Instruments; PartNumber: INA2126E/250G4; Bandwidth at G: 100(Min)(kHz)=9; CMRR(Min)(dB): 83; Gain(V/V): 5 to 10000; Input Bias Current (+/-)(Max)(nA): 25; Input Offset (+/-)(Max)(uV): 250; Input Offset Drift (+/-)(Max)(uV/Degrees Celsius): 3; Noise at 1kHz(Typ)(nV/rt(Hz)): 35; Non-Linearity (+/-)(Max)(%): 0.012; Number of Channels: 2; Quiescent Current (+/-)(Typ)(mA): 0.175; SubFamily: Dual Supply; Vs(Max)(V): 36; Vs(Min)(V): 2.7; DatasheetVersion: SBOS062A; PackageVersion: 4073301-2/H, 10/2008; PackageReference: DBQ16; PackageDescription: 16-Pin Plastic Small Outline, Body 3.9 x 4.9 mm, Pitch 0.635 mm; Supplier 1: Digi-Key; Supplier Part Number 1: INA2126E/250G4-ND; Supplier 2: Mouser; Supplier Part Number 2: 595-INA2126E/250G4; Eco-Plan: Green (RoHS & no Sb/Br); Mounting Technology: Surface Mount; Code_JEDEC: MO-137; ComponentLink1Description: Manufacturer URL; ComponentLink1URL: http://www.ti.com/; ComponentLink2Description: Datasheet; ComponentLink2URL: http://www.ti.com/general/docs/lit/getliterature.tsp?genericPartNumber=INA2126&fileType=pdf; ComponentLink3Description: Package Specification; ComponentLink3URL: http://www.ti.com/litv/pdf/msoi004g
footprint TI-DBQ16_N (SOP, 16-Leads, Body 5x4mm, Pitch 0.635mm, IPC Medium Density)
footprint TI-DBQ16_L (SOP, 16-Leads, Body 5x4mm, Pitch 0.635mm, IPC High Density)
footprint TI-DBQ16_M (SOP, 16-Leads, Body 5x4mm, Pitch 0.635mm, IPC Low Density)
pins on every part: 8 V- (power), 9 V+ (power)
part A pins: 1 VINA- (in), 2 VINA+ (in), 3 RGA (in), 4 RGA (in), 5 REFA (in), 6 VOA (out), 7 SENSEA (in)
part B pins: 10 SENSEB (in), 11 VOB (out), 12 REFB (in), 13 RGB (in), 14 RGB (in), 15 VINB+ (in), 16 VINB- (in)

## INA2126EA/2K5
designator U?
Micropower Instrumentation Amplifier Dual Versions, -40 to 85 degC, 16-pin SOP (DBQ16), Green (RoHS & no Sb/Br); Manufacturer: Texas Instruments; PartNumber: INA2126EA/2K5; Bandwidth at G: 100(Min)(kHz)=9; CMRR(Min)(dB): 74; Gain(V/V): 5 to 10000; Input Bias Current (+/-)(Max)(nA): 50; Input Offset (+/-)(Max)(uV): 500; Input Offset Drift (+/-)(Max)(uV/Degrees Celsius): 5; Noise at 1kHz(Typ)(nV/rt(Hz)): 35; Non-Linearity (+/-)(Max)(%): 0.012; Number of Channels: 2; Quiescent Current (+/-)(Typ)(mA): 0.175; SubFamily: Dual Supply; Vs(Max)(V): 36; Vs(Min)(V): 2.7; DatasheetVersion: SBOS062A; PackageVersion: 4073301-2/H, 10/2008; PackageReference: DBQ16; PackageDescription: 16-Pin Plastic Small Outline, Body 3.9 x 4.9 mm, Pitch 0.635 mm; Supplier 1: Digi-Key; Supplier Part Number 1: INA2126EA/2K5-ND; Supplier 2: Mouser; Supplier Part Number 2: 595-INA2126EA/2K5; Eco-Plan: Green (RoHS & no Sb/Br); Mounting Technology: Surface Mount; Code_JEDEC: MO-137; ComponentLink1Description: Manufacturer URL; ComponentLink1URL: http://www.ti.com/; ComponentLink2Description: Datasheet; ComponentLink2URL: http://www.ti.com/general/docs/lit/getliterature.tsp?genericPartNumber=INA2126&fileType=pdf; ComponentLink3Description: Package Specification; ComponentLink3URL: http://www.ti.com/litv/pdf/msoi004g
footprint TI-DBQ16_N (SOP, 16-Leads, Body 5x4mm, Pitch 0.635mm, IPC Medium Density)
footprint TI-DBQ16_L (SOP, 16-Leads, Body 5x4mm, Pitch 0.635mm, IPC High Density)
footprint TI-DBQ16_M (SOP, 16-Leads, Body 5x4mm, Pitch 0.635mm, IPC Low Density)
pins on every part: 8 V- (power), 9 V+ (power)
part A pins: 1 VINA- (in), 2 VINA+ (in), 3 RGA (in), 4 RGA (in), 5 REFA (in), 6 VOA (out), 7 SENSEA (in)
part B pins: 10 SENSEB (in), 11 VOB (out), 12 REFB (in), 13 RGB (in), 14 RGB (in), 15 VINB+ (in), 16 VINB- (in)

## INA2126EA/2K5G4
designator U?
Micropower Instrumentation Amplifier Dual Versions, -40 to 85 degC, 16-pin SOP (DBQ16), Green (RoHS & no Sb/Br); Manufacturer: Texas Instruments; PartNumber: INA2126EA/2K5G4; Bandwidth at G: 100(Min)(kHz)=9; CMRR(Min)(dB): 74; Gain(V/V): 5 to 10000; Input Bias Current (+/-)(Max)(nA): 50; Input Offset (+/-)(Max)(uV): 500; Input Offset Drift (+/-)(Max)(uV/Degrees Celsius): 5; Noise at 1kHz(Typ)(nV/rt(Hz)): 35; Non-Linearity (+/-)(Max)(%): 0.012; Number of Channels: 2; Quiescent Current (+/-)(Typ)(mA): 0.175; SubFamily: Dual Supply; Vs(Max)(V): 36; Vs(Min)(V): 2.7; DatasheetVersion: SBOS062A; PackageVersion: 4073301-2/H, 10/2008; PackageReference: DBQ16; PackageDescription: 16-Pin Plastic Small Outline, Body 3.9 x 4.9 mm, Pitch 0.635 mm; Supplier 1: Digi-Key; Supplier Part Number 1: INA2126EA/2K5G4-ND; Supplier 2: Mouser; Supplier Part Number 2: 595-INA2126EA/2K5G4; Eco-Plan: Green (RoHS & no Sb/Br); Mounting Technology: Surface Mount; Code_JEDEC: MO-137; ComponentLink1Description: Manufacturer URL; ComponentLink1URL: http://www.ti.com/; ComponentLink2Description: Datasheet; ComponentLink2URL: http://www.ti.com/general/docs/lit/getliterature.tsp?genericPartNumber=INA2126&fileType=pdf; ComponentLink3Description: Package Specification; ComponentLink3URL: http://www.ti.com/litv/pdf/msoi004g
footprint TI-DBQ16_N (SOP, 16-Leads, Body 5x4mm, Pitch 0.635mm, IPC Medium Density)
footprint TI-DBQ16_L (SOP, 16-Leads, Body 5x4mm, Pitch 0.635mm, IPC High Density)
footprint TI-DBQ16_M (SOP, 16-Leads, Body 5x4mm, Pitch 0.635mm, IPC Low Density)
pins on every part: 8 V- (power), 9 V+ (power)
part A pins: 1 VINA- (in), 2 VINA+ (in), 3 RGA (in), 4 RGA (in), 5 REFA (in), 6 VOA (out), 7 SENSEA (in)
part B pins: 10 SENSEB (in), 11 VOB (out), 12 REFB (in), 13 RGB (in), 14 RGB (in), 15 VINB+ (in), 16 VINB- (in)

## INA2126EA/250
designator U?
Micropower Instrumentation Amplifier Dual Versions, -40 to 85 degC, 16-pin SOP (DBQ16), Green (RoHS & no Sb/Br); Manufacturer: Texas Instruments; PartNumber: INA2126EA/250; Bandwidth at G: 100(Min)(kHz)=9; CMRR(Min)(dB): 74; Gain(V/V): 5 to 10000; Input Bias Current (+/-)(Max)(nA): 50; Input Offset (+/-)(Max)(uV): 500; Input Offset Drift (+/-)(Max)(uV/Degrees Celsius): 5; Noise at 1kHz(Typ)(nV/rt(Hz)): 35; Non-Linearity (+/-)(Max)(%): 0.012; Number of Channels: 2; Quiescent Current (+/-)(Typ)(mA): 0.175; SubFamily: Dual Supply; Vs(Max)(V): 36; Vs(Min)(V): 2.7; DatasheetVersion: SBOS062A; PackageVersion: 4073301-2/H, 10/2008; PackageReference: DBQ16; PackageDescription: 16-Pin Plastic Small Outline, Body 3.9 x 4.9 mm, Pitch 0.635 mm; Supplier 1: Digi-Key; Supplier Part Number 1: INA2126EATR-ND; Supplier 2: Digi-Key; Supplier Part Number 2: INA2126EACT-ND; Supplier 3: Digi-Key; Supplier Part Number 3: INA2126EADKR-ND; Supplier 4: Mouser; Supplier Part Number 4: 595-INA2126EA/250; Eco-Plan: Green (RoHS & no Sb/Br); Mounting Technology: Surface Mount; Code_JEDEC: MO-137; ComponentLink1Description: Manufacturer URL; ComponentLink1URL: http://www.ti.com/; ComponentLink2Description: Datasheet; ComponentLink2URL: http://www.ti.com/general/docs/lit/getliterature.tsp?genericPartNumber=INA2126&fileType=pdf; ComponentLink3Description: Package Specification; ComponentLink3URL: http://www.ti.com/litv/pdf/msoi004g
footprint TI-DBQ16_N (SOP, 16-Leads, Body 5x4mm, Pitch 0.635mm, IPC Medium Density)
footprint TI-DBQ16_L (SOP, 16-Leads, Body 5x4mm, Pitch 0.635mm, IPC High Density)
footprint TI-DBQ16_M (SOP, 16-Leads, Body 5x4mm, Pitch 0.635mm, IPC Low Density)
pins on every part: 8 V- (power), 9 V+ (power)
part A pins: 1 VINA- (in), 2 VINA+ (in), 3 RGA (in), 4 RGA (in), 5 REFA (in), 6 VOA (out), 7 SENSEA (in)
part B pins: 10 SENSEB (in), 11 VOB (out), 12 REFB (in), 13 RGB (in), 14 RGB (in), 15 VINB+ (in), 16 VINB- (in)

## INA2126EA/250G4
designator U?
Micropower Instrumentation Amplifier Dual Versions, -40 to 85 degC, 16-pin SOP (DBQ16), Green (RoHS & no Sb/Br); Manufacturer: Texas Instruments; PartNumber: INA2126EA/250G4; Bandwidth at G: 100(Min)(kHz)=9; CMRR(Min)(dB): 74; Gain(V/V): 5 to 10000; Input Bias Current (+/-)(Max)(nA): 50; Input Offset (+/-)(Max)(uV): 500; Input Offset Drift (+/-)(Max)(uV/Degrees Celsius): 5; Noise at 1kHz(Typ)(nV/rt(Hz)): 35; Non-Linearity (+/-)(Max)(%): 0.012; Number of Channels: 2; Quiescent Current (+/-)(Typ)(mA): 0.175; SubFamily: Dual Supply; Vs(Max)(V): 36; Vs(Min)(V): 2.7; DatasheetVersion: SBOS062A; PackageVersion: 4073301-2/H, 10/2008; PackageReference: DBQ16; PackageDescription: 16-Pin Plastic Small Outline, Body 3.9 x 4.9 mm, Pitch 0.635 mm; Supplier 1: Digi-Key; Supplier Part Number 1: INA2126EA/250G4-ND; Supplier 2: Newark; Supplier Part Number 2: 14M2011; Supplier 3: Mouser; Supplier Part Number 3: 595-INA2126EA/250G4; Eco-Plan: Green (RoHS & no Sb/Br); Mounting Technology: Surface Mount; Code_JEDEC: MO-137; ComponentLink1Description: Manufacturer URL; ComponentLink1URL: http://www.ti.com/; ComponentLink2Description: Datasheet; ComponentLink2URL: http://www.ti.com/general/docs/lit/getliterature.tsp?genericPartNumber=INA2126&fileType=pdf; ComponentLink3Description: Package Specification; ComponentLink3URL: http://www.ti.com/litv/pdf/msoi004g
footprint TI-DBQ16_N (SOP, 16-Leads, Body 5x4mm, Pitch 0.635mm, IPC Medium Density)
footprint TI-DBQ16_L (SOP, 16-Leads, Body 5x4mm, Pitch 0.635mm, IPC High Density)
footprint TI-DBQ16_M (SOP, 16-Leads, Body 5x4mm, Pitch 0.635mm, IPC Low Density)
pins on every part: 8 V- (power), 9 V+ (power)
part A pins: 1 VINA- (in), 2 VINA+ (in), 3 RGA (in), 4 RGA (in), 5 REFA (in), 6 VOA (out), 7 SENSEA (in)
part B pins: 10 SENSEB (in), 11 VOB (out), 12 REFB (in), 13 RGB (in), 14 RGB (in), 15 VINB+ (in), 16 VINB- (in)

## INA2126P
designator U?
Micropower Instrumentation Amplifier Dual Versions, -40 to 85 degC, 16-pin DIP (N16), Green (RoHS & no Sb/Br); Manufacturer: Texas Instruments; PartNumber: INA2126P; Bandwidth at G: 100(Min)(kHz)=9; CMRR(Min)(dB): 83; Gain(V/V): 5 to 10000; Input Bias Current (+/-)(Max)(nA): 25; Input Offset (+/-)(Max)(uV): 250; Input Offset Drift (+/-)(Max)(uV/Degrees Celsius): 3; Noise at 1kHz(Typ)(nV/rt(Hz)): 35; Non-Linearity (+/-)(Max)(%): 0.012; Number of Channels: 2; Quiescent Current (+/-)(Typ)(mA): 0.175; SubFamily: Dual Supply; Vs(Max)(V): 36; Vs(Min)(V): 2.7; DatasheetVersion: SBOS062A; PackageVersion: 4040049/E, 12/2002; PackageReference: N16; PackageDescription: 16-Pin Plastic In-Line, Body 19.305 x 6.35 mm, Pitch 2.54 mm; Supplier 1: Digi-Key; Supplier Part Number 1: INA2126P-ND; Supplier 2: Farnell; Supplier Part Number 2: 1535404; Supplier 3: Newark; Supplier Part Number 3: 74C9838; Supplier 4: Mouser; Supplier Part Number 4: 595-INA2126P; Eco-Plan: Green (RoHS & no Sb/Br); Mounting Technology: Through Hole; Code_JEDEC: MS-001; ComponentLink1Description: Manufacturer URL; ComponentLink1URL: http://www.ti.com/; ComponentLink2Description: Datasheet; ComponentLink2URL: http://www.ti.com/general/docs/lit/getliterature.tsp?genericPartNumber=INA2126&fileType=pdf; ComponentLink3Description: Package Specification; ComponentLink3URL: http://www.ti.com/litv/pdf/mpdi002c
footprint TI-N16 (DIP, 16-Leads, Body 19.7x6.6mm, Pitch 2.54mm)
pins on every part: 8 V- (power), 9 V+ (power)
part A pins: 1 VINA- (in), 2 VINA+ (in), 3 RGA (in), 4 RGA (in), 5 REFA (in), 6 VOA (out), 7 SENSEA (in)
part B pins: 10 SENSEB (in), 11 VOB (out), 12 REFB (in), 13 RGB (in), 14 RGB (in), 15 VINB+ (in), 16 VINB- (in)

## INA2126PG4
designator U?
Micropower Instrumentation Amplifier Dual Versions, -40 to 85 degC, 16-pin DIP (N16), Green (RoHS & no Sb/Br); Manufacturer: Texas Instruments; PartNumber: INA2126PG4; Bandwidth at G: 100(Min)(kHz)=9; CMRR(Min)(dB): 83; Gain(V/V): 5 to 10000; Input Bias Current (+/-)(Max)(nA): 25; Input Offset (+/-)(Max)(uV): 250; Input Offset Drift (+/-)(Max)(uV/Degrees Celsius): 3; Noise at 1kHz(Typ)(nV/rt(Hz)): 35; Non-Linearity (+/-)(Max)(%): 0.012; Number of Channels: 2; Quiescent Current (+/-)(Typ)(mA): 0.175; SubFamily: Dual Supply; Vs(Max)(V): 36; Vs(Min)(V): 2.7; DatasheetVersion: SBOS062A; PackageVersion: 4040049/E, 12/2002; PackageReference: N16; PackageDescription: 16-Pin Plastic In-Line, Body 19.305 x 6.35 mm, Pitch 2.54 mm; Supplier 1: Digi-Key; Supplier Part Number 1: INA2126PG4-ND; Supplier 2: Newark; Supplier Part Number 2: 99K2243; Supplier 3: Mouser; Supplier Part Number 3: 595-INA2126PG4; Eco-Plan: Green (RoHS & no Sb/Br); Mounting Technology: Through Hole; Code_JEDEC: MS-001; ComponentLink1Description: Manufacturer URL; ComponentLink1URL: http://www.ti.com/; ComponentLink2Description: Datasheet; ComponentLink2URL: http://www.ti.com/general/docs/lit/getliterature.tsp?genericPartNumber=INA2126&fileType=pdf; ComponentLink3Description: Package Specification; ComponentLink3URL: http://www.ti.com/litv/pdf/mpdi002c
footprint TI-N16 (DIP, 16-Leads, Body 19.7x6.6mm, Pitch 2.54mm)
pins on every part: 8 V- (power), 9 V+ (power)
part A pins: 1 VINA- (in), 2 VINA+ (in), 3 RGA (in), 4 RGA (in), 5 REFA (in), 6 VOA (out), 7 SENSEA (in)
part B pins: 10 SENSEB (in), 11 VOB (out), 12 REFB (in), 13 RGB (in), 14 RGB (in), 15 VINB+ (in), 16 VINB- (in)